# Altium integrated library Linear Technology Power Management System Supervisor, Monitor and Control.IntLib: 1611 symbols (part 80 of 100)
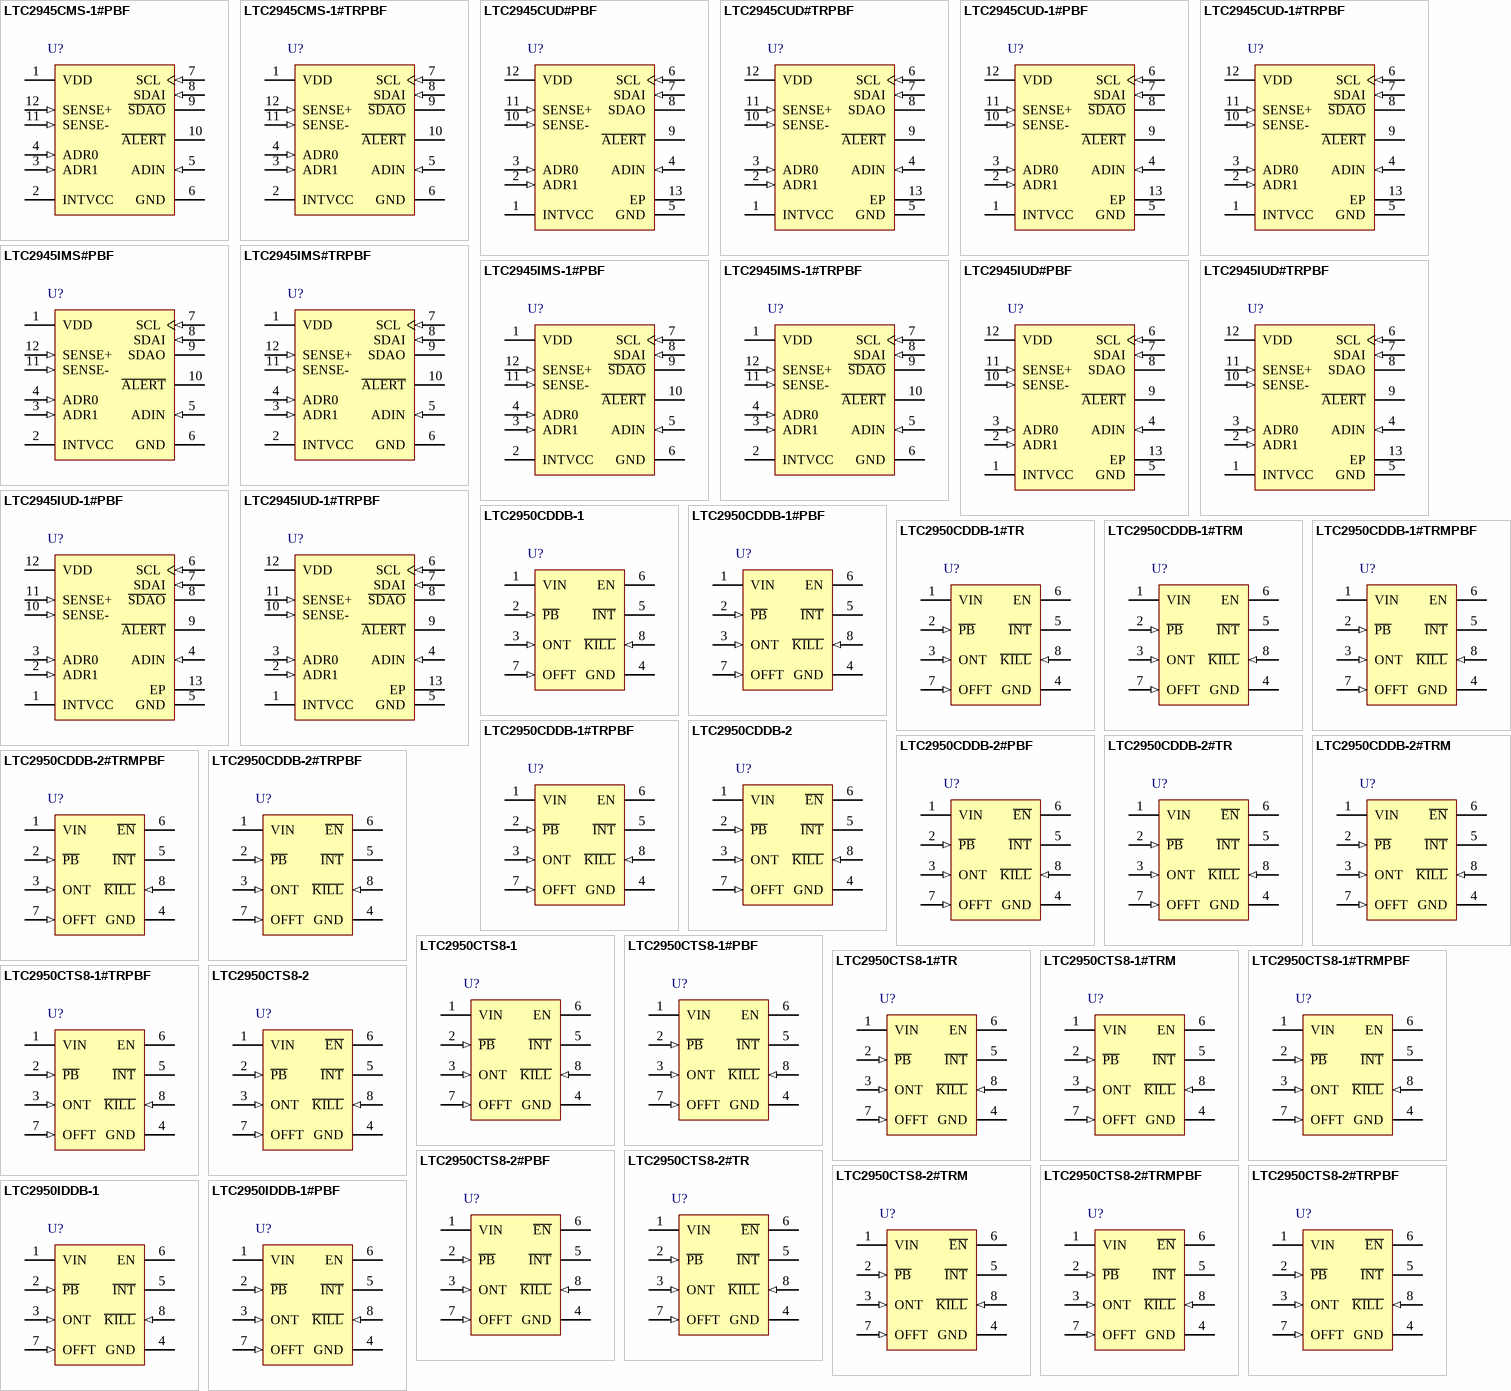
[diagram p124: symbols LTC2945CMS-1#PBF to LTC2950IDDB-1#PBF]

## LTC2945IUD#TRPBF
designator U?
Wide Range I2C Power Monitor, 12-pin QFN (UD-12), -40 to 85 degC, Pb-Free, Tape and Reel; Manufacturer: Linear Technology; PartNumber: LTC2945IUD#TRPBF; Number of Supplies(#): 1; PackageVersion: Rev. Ø, 06/2010; PackageReference: UD-12; PackageDescription: 12-Pin Plastic QFN, Body 3 x 3 mm, Pitch 0.5 mm; Supplier 1: Digi-Key; Supplier Part Number 1: LTC2945IUD#TRPBF-ND; Supplier 2: Newark; Supplier Part Number 2: 48W6396; Packing: Tape and Reel; RoHS: TRUE; Mounting Technology: Surface Mount; Code_JEDEC: MO-220; ComponentLink1Description: Manufacturer URL; ComponentLink1URL: http://www.linear.com/; ComponentLink2Description: Datasheet; ComponentLink2URL: http://cds.linear.com/docs/en/datasheet/2945f.pdf; ComponentLink3Description: Package Specification; ComponentLink3URL: http://cds.linear.com/docs/en/packaging/QFN_12_%2005-08-1855.pdf
footprint LT-UD-12_N (QFN, 12-Leads, Body 3.1x3.1mm, Pitch 0.5mm, Thermal Pad 1.65x1.65mm, IPC Medium Density)
footprint LT-UD-12_L (QFN, 12-Leads, Body 3.1x3.1mm, Pitch 0.5mm, Thermal Pad 1.65x1.65mm, IPC High Density)
footprint LT-UD-12_M (QFN, 12-Leads, Body 3.1x3.1mm, Pitch 0.5mm, Thermal Pad 1.65x1.65mm, IPC Low Density)
pins: 1 INTVCC (power) "Internal Low Voltage Supply Input/Output. This pin is used to power internal circuitry. It can be configured as a direct input for a low voltage supply, as linear regulator from higher voltage supply connected to VDD, or as (See Datasheet)", 2 ADR1 (in) "I2C Device Address Inputs. Connecting these pins to INTVCC, GND or leaving the pins open configures one of nine possible addresses. See Table 1 in Applications Information section for details.", 3 ADR0 (in) "I2C Device Address Inputs. Connecting these pins to INTVCC, GND or leaving the pins open configures one of nine possible addresses. See Table 1 in Applications Information section for details.", 4 ADIN (in) "ADC Input. The onboard ADC measures voltages between 0V and 2.048V. Tie to ground if unused.", 5 GND (power) "Device Ground.", 6 SCL (in) "I2C Bus Clock Input. Data at the SDAI pin is shifted in or out on rising edges of SCL. This pin is driven by an open-collector output from a master controller. An external pull-up resistor or current source is required and (See Datasheet)", 7 SDAI (in) "I2C Bus Data Input. Used for shifting in address, command or data bits. This pin is driven by an opencollector output from a master controller. An external pull-up resistor or current source is required and can be placed (See Datasheet)", 8 SDAO (oc) "I2C Bus Data Output. Open-drain output used for sending data back to the master controller or acknowledging a write operation. An external pull-up resistor or current source is required.", 9 ~{ALERT} (oc) "Fault Alert Output. Open drain logic output that is pulled to ground after an ADC conversion resulted in a fault to alert the host controller. A fault alert is enabled by setting the corresponding bit in the ALERT register (See Datasheet)", 10 SENSE- (in) "Current Sense Input. Connect an external sense resistor between SENSE+ and SENSE-. The differential voltage between SENSE+ and SENSE- is monitored by the onboard ADC with a full-scale sense voltage of 102.4mV.", 11 SENSE+ (in) "Supply Voltage and Current Sense Input. Used as a supply and current sense input for the internal current sense amplifier. The voltage at this pin is monitored by the onboard ADC with a full-scale input range of 102.4V. See (See Datasheet)", 12 VDD (power) "High Voltage Supply Input. This pin powers an internal series regulator with input voltages ranging from 4V to 80V and produces 5V at INTVCC when the input voltage is above 7V. Connect a bypass capacitor between 0.1uF and (See Datasheet)", 13 EP (power) "Exposed pad may be left open or connected to device ground. For best thermal performance, connect to a large PCB area."

## LTC2945IUD-1#PBF
designator U?
Wide Range I2C Power Monitor, 12-pin QFN (UD-12), -40 to 85 degC, Pb-Free; Manufacturer: Linear Technology; PartNumber: LTC2945IUD-1#PBF; Number of Supplies(#): 1; PackageVersion: Rev. Ø, 06/2010; PackageReference: UD-12; PackageDescription: 12-Pin Plastic QFN, Body 3 x 3 mm, Pitch 0.5 mm; Supplier 1: Digi-Key; Supplier Part Number 1: LTC2945IUD-1#PBF-ND; Supplier 2: Newark; Supplier Part Number 2: 48W6393; RoHS: TRUE; Mounting Technology: Surface Mount; Code_JEDEC: MO-220; ComponentLink1Description: Manufacturer URL; ComponentLink1URL: http://www.linear.com/; ComponentLink2Description: Datasheet; ComponentLink2URL: http://cds.linear.com/docs/en/datasheet/2945f.pdf; ComponentLink3Description: Package Specification; ComponentLink3URL: http://cds.linear.com/docs/en/packaging/QFN_12_%2005-08-1855.pdf
footprint LT-UD-12_N (QFN, 12-Leads, Body 3.1x3.1mm, Pitch 0.5mm, Thermal Pad 1.65x1.65mm, IPC Medium Density)
footprint LT-UD-12_L (QFN, 12-Leads, Body 3.1x3.1mm, Pitch 0.5mm, Thermal Pad 1.65x1.65mm, IPC High Density)
footprint LT-UD-12_M (QFN, 12-Leads, Body 3.1x3.1mm, Pitch 0.5mm, Thermal Pad 1.65x1.65mm, IPC Low Density)
pins: 1 INTVCC (power) "Internal Low Voltage Supply Input/Output. This pin is used to power internal circuitry. It can be configured as a direct input for a low voltage supply, as linear regulator from higher voltage supply connected to VDD, or as (See Datasheet)", 2 ADR1 (in) "I2C Device Address Inputs. Connecting these pins to INTVCC, GND or leaving the pins open configures one of nine possible addresses. See Table 1 in Applications Information section for details.", 3 ADR0 (in) "I2C Device Address Inputs. Connecting these pins to INTVCC, GND or leaving the pins open configures one of nine possible addresses. See Table 1 in Applications Information section for details.", 4 ADIN (in) "ADC Input. The onboard ADC measures voltages between 0V and 2.048V. Tie to ground if unused.", 5 GND (power) "Device Ground.", 6 SCL (in) "I2C Bus Clock Input. Data at the SDAI pin is shifted in or out on rising edges of SCL. This pin is driven by an open-collector output from a master controller. An external pull-up resistor or current source is required and (See Datasheet)", 7 SDAI (in) "I2C Bus Data Input. Used for shifting in address, command or data bits. This pin is driven by an opencollector output from a master controller. An external pull-up resistor or current source is required and can be placed (See Datasheet)", 8 ~{SDAO} (oc) "Inverted I2C Bus Data Output. Open-drain output used for sending data back to the master controller or acknowledging a write operation. Data is inverted for convenience of opto-isolation. An external pull-up resistor or (See Datasheet)", 9 ~{ALERT} (oc) "Fault Alert Output. Open drain logic output that is pulled to ground after an ADC conversion resulted in a fault to alert the host controller. A fault alert is enabled by setting the corresponding bit in the ALERT register (See Datasheet)", 10 SENSE- (in) "Current Sense Input. Connect an external sense resistor between SENSE+ and SENSE-. The differential voltage between SENSE+ and SENSE- is monitored by the onboard ADC with a full-scale sense voltage of 102.4mV.", 11 SENSE+ (in) "Supply Voltage and Current Sense Input. Used as a supply and current sense input for the internal current sense amplifier. The voltage at this pin is monitored by the onboard ADC with a full-scale input range of 102.4V. See (See Datasheet)", 12 VDD (power) "High Voltage Supply Input. This pin powers an internal series regulator with input voltages ranging from 4V to 80V and produces 5V at INTVCC when the input voltage is above 7V. Connect a bypass capacitor between 0.1uF and (See Datasheet)", 13 EP (power) "Exposed pad may be left open or connected to device ground. For best thermal performance, connect to a large PCB area."

## LTC2945IUD-1#TRPBF
designator U?
Wide Range I2C Power Monitor, 12-pin QFN (UD-12), -40 to 85 degC, Pb-Free, Tape and Reel; Manufacturer: Linear Technology; PartNumber: LTC2945IUD-1#TRPBF; Number of Supplies(#): 1; PackageVersion: Rev. Ø, 06/2010; PackageReference: UD-12; PackageDescription: 12-Pin Plastic QFN, Body 3 x 3 mm, Pitch 0.5 mm; Supplier 1: Digi-Key; Supplier Part Number 1: LTC2945IUD-1#TRPBF-ND; Supplier 2: Newark; Supplier Part Number 2: 48W6394; Packing: Tape and Reel; RoHS: TRUE; Mounting Technology: Surface Mount; Code_JEDEC: MO-220; ComponentLink1Description: Manufacturer URL; ComponentLink1URL: http://www.linear.com/; ComponentLink2Description: Datasheet; ComponentLink2URL: http://cds.linear.com/docs/en/datasheet/2945f.pdf; ComponentLink3Description: Package Specification; ComponentLink3URL: http://cds.linear.com/docs/en/packaging/QFN_12_%2005-08-1855.pdf
footprint LT-UD-12_N (QFN, 12-Leads, Body 3.1x3.1mm, Pitch 0.5mm, Thermal Pad 1.65x1.65mm, IPC Medium Density)
footprint LT-UD-12_L (QFN, 12-Leads, Body 3.1x3.1mm, Pitch 0.5mm, Thermal Pad 1.65x1.65mm, IPC High Density)
footprint LT-UD-12_M (QFN, 12-Leads, Body 3.1x3.1mm, Pitch 0.5mm, Thermal Pad 1.65x1.65mm, IPC Low Density)
pins: 1 INTVCC (power) "Internal Low Voltage Supply Input/Output. This pin is used to power internal circuitry. It can be configured as a direct input for a low voltage supply, as linear regulator from higher voltage supply connected to VDD, or as (See Datasheet)", 2 ADR1 (in) "I2C Device Address Inputs. Connecting these pins to INTVCC, GND or leaving the pins open configures one of nine possible addresses. See Table 1 in Applications Information section for details.", 3 ADR0 (in) "I2C Device Address Inputs. Connecting these pins to INTVCC, GND or leaving the pins open configures one of nine possible addresses. See Table 1 in Applications Information section for details.", 4 ADIN (in) "ADC Input. The onboard ADC measures voltages between 0V and 2.048V. Tie to ground if unused.", 5 GND (power) "Device Ground.", 6 SCL (in) "I2C Bus Clock Input. Data at the SDAI pin is shifted in or out on rising edges of SCL. This pin is driven by an open-collector output from a master controller. An external pull-up resistor or current source is required and (See Datasheet)", 7 SDAI (in) "I2C Bus Data Input. Used for shifting in address, command or data bits. This pin is driven by an opencollector output from a master controller. An external pull-up resistor or current source is required and can be placed (See Datasheet)", 8 ~{SDAO} (oc) "Inverted I2C Bus Data Output. Open-drain output used for sending data back to the master controller or acknowledging a write operation. Data is inverted for convenience of opto-isolation. An external pull-up resistor or (See Datasheet)", 9 ~{ALERT} (oc) "Fault Alert Output. Open drain logic output that is pulled to ground after an ADC conversion resulted in a fault to alert the host controller. A fault alert is enabled by setting the corresponding bit in the ALERT register (See Datasheet)", 10 SENSE- (in) "Current Sense Input. Connect an external sense resistor between SENSE+ and SENSE-. The differential voltage between SENSE+ and SENSE- is monitored by the onboard ADC with a full-scale sense voltage of 102.4mV.", 11 SENSE+ (in) "Supply Voltage and Current Sense Input. Used as a supply and current sense input for the internal current sense amplifier. The voltage at this pin is monitored by the onboard ADC with a full-scale input range of 102.4V. See (See Datasheet)", 12 VDD (power) "High Voltage Supply Input. This pin powers an internal series regulator with input voltages ranging from 4V to 80V and produces 5V at INTVCC when the input voltage is above 7V. Connect a bypass capacitor between 0.1uF and (See Datasheet)", 13 EP (power) "Exposed pad may be left open or connected to device ground. For best thermal performance, connect to a large PCB area."

## LTC2950CDDB-1
designator U?
Pushbutton On / Off  Controller, 8-pin SON (DDB-8), 0 to 70 degC; Manufacturer: Linear Technology; PartNumber: LTC2950CDDB-1; Number of Supplies(#): 1; DatasheetVersion: Rev. D; PackageVersion: Rev. B, 06/2010; PackageReference: DDB-8; PackageDescription: 8-Pin Plastic DFN, Body 3 x 2 mm, Pitch 0.5 mm; RoHS: FALSE; Mounting Technology: Surface Mount; Code_JEDEC: MO-229; ComponentLink1Description: Manufacturer URL; ComponentLink1URL: http://www.linear.com/; ComponentLink2Description: Datasheet; ComponentLink2URL: http://cds.linear.com/docs/en/datasheet/295012fd.pdf; ComponentLink3Description: Package Specification; ComponentLink3URL: http://cds.linear.com/docs/en/packaging/DFN_8_05-08-1702.pdf
footprint LT-DDB-8_V (SON, 8-Leads, Body 3x2mm, Pitch 0.5mm, Thermal Pad 2.2x0.61mm)
pins: 1 VIN (power) "Power Supply Input: 2.7V to 26.4V.", 2 ~{PB} (in) "Pushbutton Input. Connecting P\B\ to ground through a momentary switch provides on/off control via the EN/E\N\ pin. An internal 100k pull-up resistor connects to an internal 1.9V bias voltage. The rugged P\B\ input can be (See Datasheet)", 3 ONT (in) "Additional Adjustable Turn On Time Input. Placing an external capacitor to ground determines the additional time (beyond the internal default 32ms) the P\B\ pin must be held low before the enable output is asserted. Floating (See Datasheet)", 4 GND (power) "Device Ground.", 5 ~{INT} (oc) "Open Drain Interrupt Output. After a pushbutton turn-off event is detected, the LTC2950 interrupts the system (uP) by bringing the I\N\T\ pin low. Once the system finishes its power down and housekeeping tasks, it sets (See Datasheet)", 6 EN (oc) "Open Drain Enable Output. This pin is intended to enable system power. E\N\ is asserted low after a valid P\B\ turn-on event. E\N\ releases high if: a) K\I\L\L\ is not driven high (by uP) within 512ms of the initial valid (See Datasheet)", 7 OFFT (in) "Additional Adjustable Turn Off Time Input. A capacitor to ground determines the additional time (beyond the internal default 32ms) that the P\B\ pin must be held low before initiating a power down sequence (I\N\T\ falling). (See Datasheet)", 8 ~{KILL} (in) "K\I\L\L\ Input. Forcing K\I\L\L\ low releases the enable output. During system turn on, this pin is blanked by a 512ms internal timer to allow the system to pull K\I\L\L\ high. This pin has an accurate 0.6V threshold and can (See Datasheet)"

## LTC2950CDDB-1#PBF
designator U?
Pushbutton On / Off  Controller, 8-pin SON (DDB-8), 0 to 70 degC, Pb-Free; Manufacturer: Linear Technology; PartNumber: LTC2950CDDB-1#PBF; Number of Supplies(#): 1; DatasheetVersion: Rev. D; PackageVersion: Rev. B, 06/2010; PackageReference: DDB-8; PackageDescription: 8-Pin Plastic DFN, Body 3 x 2 mm, Pitch 0.5 mm; Supplier 1: Farnell; Supplier Part Number 1: 2308126; Supplier 2: Newark; Supplier Part Number 2: 78T3105; RoHS: TRUE; Mounting Technology: Surface Mount; Code_JEDEC: MO-229; ComponentLink1Description: Manufacturer URL; ComponentLink1URL: http://www.linear.com/; ComponentLink2Description: Datasheet; ComponentLink2URL: http://cds.linear.com/docs/en/datasheet/295012fd.pdf; ComponentLink3Description: Package Specification; ComponentLink3URL: http://cds.linear.com/docs/en/packaging/DFN_8_05-08-1702.pdf
footprint LT-DDB-8_V (SON, 8-Leads, Body 3x2mm, Pitch 0.5mm, Thermal Pad 2.2x0.61mm)
pins: 1 VIN (power) "Power Supply Input: 2.7V to 26.4V.", 2 ~{PB} (in) "Pushbutton Input. Connecting P\B\ to ground through a momentary switch provides on/off control via the EN/E\N\ pin. An internal 100k pull-up resistor connects to an internal 1.9V bias voltage. The rugged P\B\ input can be (See Datasheet)", 3 ONT (in) "Additional Adjustable Turn On Time Input. Placing an external capacitor to ground determines the additional time (beyond the internal default 32ms) the P\B\ pin must be held low before the enable output is asserted. Floating (See Datasheet)", 4 GND (power) "Device Ground.", 5 ~{INT} (oc) "Open Drain Interrupt Output. After a pushbutton turn-off event is detected, the LTC2950 interrupts the system (uP) by bringing the I\N\T\ pin low. Once the system finishes its power down and housekeeping tasks, it sets (See Datasheet)", 6 EN (oc) "Open Drain Enable Output. This pin is intended to enable system power. E\N\ is asserted low after a valid P\B\ turn-on event. E\N\ releases high if: a) K\I\L\L\ is not driven high (by uP) within 512ms of the initial valid (See Datasheet)", 7 OFFT (in) "Additional Adjustable Turn Off Time Input. A capacitor to ground determines the additional time (beyond the internal default 32ms) that the P\B\ pin must be held low before initiating a power down sequence (I\N\T\ falling). (See Datasheet)", 8 ~{KILL} (in) "K\I\L\L\ Input. Forcing K\I\L\L\ low releases the enable output. During system turn on, this pin is blanked by a 512ms internal timer to allow the system to pull K\I\L\L\ high. This pin has an accurate 0.6V threshold and can (See Datasheet)"

## LTC2950CDDB-1#TR
designator U?
Pushbutton On / Off  Controller, 8-pin SON (DDB-8), 0 to 70 degC, Tape and Reel; Manufacturer: Linear Technology; PartNumber: LTC2950CDDB-1#TR; Number of Supplies(#): 1; DatasheetVersion: Rev. D; PackageVersion: Rev. B, 06/2010; PackageReference: DDB-8; PackageDescription: 8-Pin Plastic DFN, Body 3 x 2 mm, Pitch 0.5 mm; Packing: Tape and Reel; RoHS: FALSE; Mounting Technology: Surface Mount; Code_JEDEC: MO-229; ComponentLink1Description: Manufacturer URL; ComponentLink1URL: http://www.linear.com/; ComponentLink2Description: Datasheet; ComponentLink2URL: http://cds.linear.com/docs/en/datasheet/295012fd.pdf; ComponentLink3Description: Package Specification; ComponentLink3URL: http://cds.linear.com/docs/en/packaging/DFN_8_05-08-1702.pdf
footprint LT-DDB-8_V (SON, 8-Leads, Body 3x2mm, Pitch 0.5mm, Thermal Pad 2.2x0.61mm)
pins: 1 VIN (power) "Power Supply Input: 2.7V to 26.4V.", 2 ~{PB} (in) "Pushbutton Input. Connecting P\B\ to ground through a momentary switch provides on/off control via the EN/E\N\ pin. An internal 100k pull-up resistor connects to an internal 1.9V bias voltage. The rugged P\B\ input can be (See Datasheet)", 3 ONT (in) "Additional Adjustable Turn On Time Input. Placing an external capacitor to ground determines the additional time (beyond the internal default 32ms) the P\B\ pin must be held low before the enable output is asserted. Floating (See Datasheet)", 4 GND (power) "Device Ground.", 5 ~{INT} (oc) "Open Drain Interrupt Output. After a pushbutton turn-off event is detected, the LTC2950 interrupts the system (uP) by bringing the I\N\T\ pin low. Once the system finishes its power down and housekeeping tasks, it sets (See Datasheet)", 6 EN (oc) "Open Drain Enable Output. This pin is intended to enable system power. E\N\ is asserted low after a valid P\B\ turn-on event. E\N\ releases high if: a) K\I\L\L\ is not driven high (by uP) within 512ms of the initial valid (See Datasheet)", 7 OFFT (in) "Additional Adjustable Turn Off Time Input. A capacitor to ground determines the additional time (beyond the internal default 32ms) that the P\B\ pin must be held low before initiating a power down sequence (I\N\T\ falling). (See Datasheet)", 8 ~{KILL} (in) "K\I\L\L\ Input. Forcing K\I\L\L\ low releases the enable output. During system turn on, this pin is blanked by a 512ms internal timer to allow the system to pull K\I\L\L\ high. This pin has an accurate 0.6V threshold and can (See Datasheet)"

## LTC2950CDDB-1#TRM
designator U?
Pushbutton On / Off  Controller, 8-pin SON (DDB-8), 0 to 70 degC, Mini Tape and Reel; Manufacturer: Linear Technology; PartNumber: LTC2950CDDB-1#TRM; Number of Supplies(#): 1; DatasheetVersion: Rev. D; PackageVersion: Rev. B, 06/2010; PackageReference: DDB-8; PackageDescription: 8-Pin Plastic DFN, Body 3 x 2 mm, Pitch 0.5 mm; Packing: Mini Tape and Reel; RoHS: FALSE; Mounting Technology: Surface Mount; Code_JEDEC: MO-229; ComponentLink1Description: Manufacturer URL; ComponentLink1URL: http://www.linear.com/; ComponentLink2Description: Datasheet; ComponentLink2URL: http://cds.linear.com/docs/en/datasheet/295012fd.pdf; ComponentLink3Description: Package Specification; ComponentLink3URL: http://cds.linear.com/docs/en/packaging/DFN_8_05-08-1702.pdf
footprint LT-DDB-8_V (SON, 8-Leads, Body 3x2mm, Pitch 0.5mm, Thermal Pad 2.2x0.61mm)
pins: 1 VIN (power) "Power Supply Input: 2.7V to 26.4V.", 2 ~{PB} (in) "Pushbutton Input. Connecting P\B\ to ground through a momentary switch provides on/off control via the EN/E\N\ pin. An internal 100k pull-up resistor connects to an internal 1.9V bias voltage. The rugged P\B\ input can be (See Datasheet)", 3 ONT (in) "Additional Adjustable Turn On Time Input. Placing an external capacitor to ground determines the additional time (beyond the internal default 32ms) the P\B\ pin must be held low before the enable output is asserted. Floating (See Datasheet)", 4 GND (power) "Device Ground.", 5 ~{INT} (oc) "Open Drain Interrupt Output. After a pushbutton turn-off event is detected, the LTC2950 interrupts the system (uP) by bringing the I\N\T\ pin low. Once the system finishes its power down and housekeeping tasks, it sets (See Datasheet)", 6 EN (oc) "Open Drain Enable Output. This pin is intended to enable system power. E\N\ is asserted low after a valid P\B\ turn-on event. E\N\ releases high if: a) K\I\L\L\ is not driven high (by uP) within 512ms of the initial valid (See Datasheet)", 7 OFFT (in) "Additional Adjustable Turn Off Time Input. A capacitor to ground determines the additional time (beyond the internal default 32ms) that the P\B\ pin must be held low before initiating a power down sequence (I\N\T\ falling). (See Datasheet)", 8 ~{KILL} (in) "K\I\L\L\ Input. Forcing K\I\L\L\ low releases the enable output. During system turn on, this pin is blanked by a 512ms internal timer to allow the system to pull K\I\L\L\ high. This pin has an accurate 0.6V threshold and can (See Datasheet)"

## LTC2950CDDB-1#TRMPBF
designator U?
Pushbutton On / Off  Controller, 8-pin SON (DDB-8), 0 to 70 degC, Pb-Free, Mini Tape and Reel; Manufacturer: Linear Technology; PartNumber: LTC2950CDDB-1#TRMPBF; Number of Supplies(#): 1; DatasheetVersion: Rev. D; PackageVersion: Rev. B, 06/2010; PackageReference: DDB-8; PackageDescription: 8-Pin Plastic DFN, Body 3 x 2 mm, Pitch 0.5 mm; Supplier 1: Digi-Key; Supplier Part Number 1: LTC2950CDDB-1#TRMPBFTR-ND; Supplier 2: Digi-Key; Supplier Part Number 2: LTC2950CDDB-1#TRMPBFCT-ND; Supplier 3: Digi-Key; Supplier Part Number 3: LTC2950CDDB-1#TRMPBFDKR-ND; Supplier 4: Newark; Supplier Part Number 4: 12P6548; Packing: Mini Tape and Reel; RoHS: TRUE; Mounting Technology: Surface Mount; Code_JEDEC: MO-229; ComponentLink1Description: Manufacturer URL; ComponentLink1URL: http://www.linear.com/; ComponentLink2Description: Datasheet; ComponentLink2URL: http://cds.linear.com/docs/en/datasheet/295012fd.pdf; ComponentLink3Description: Package Specification; ComponentLink3URL: http://cds.linear.com/docs/en/packaging/DFN_8_05-08-1702.pdf
footprint LT-DDB-8_V (SON, 8-Leads, Body 3x2mm, Pitch 0.5mm, Thermal Pad 2.2x0.61mm)
pins: 1 VIN (power) "Power Supply Input: 2.7V to 26.4V.", 2 ~{PB} (in) "Pushbutton Input. Connecting P\B\ to ground through a momentary switch provides on/off control via the EN/E\N\ pin. An internal 100k pull-up resistor connects to an internal 1.9V bias voltage. The rugged P\B\ input can be (See Datasheet)", 3 ONT (in) "Additional Adjustable Turn On Time Input. Placing an external capacitor to ground determines the additional time (beyond the internal default 32ms) the P\B\ pin must be held low before the enable output is asserted. Floating (See Datasheet)", 4 GND (power) "Device Ground.", 5 ~{INT} (oc) "Open Drain Interrupt Output. After a pushbutton turn-off event is detected, the LTC2950 interrupts the system (uP) by bringing the I\N\T\ pin low. Once the system finishes its power down and housekeeping tasks, it sets (See Datasheet)", 6 EN (oc) "Open Drain Enable Output. This pin is intended to enable system power. E\N\ is asserted low after a valid P\B\ turn-on event. E\N\ releases high if: a) K\I\L\L\ is not driven high (by uP) within 512ms of the initial valid (See Datasheet)", 7 OFFT (in) "Additional Adjustable Turn Off Time Input. A capacitor to ground determines the additional time (beyond the internal default 32ms) that the P\B\ pin must be held low before initiating a power down sequence (I\N\T\ falling). (See Datasheet)", 8 ~{KILL} (in) "K\I\L\L\ Input. Forcing K\I\L\L\ low releases the enable output. During system turn on, this pin is blanked by a 512ms internal timer to allow the system to pull K\I\L\L\ high. This pin has an accurate 0.6V threshold and can (See Datasheet)"

## LTC2950CDDB-1#TRPBF
designator U?
Pushbutton On / Off  Controller, 8-pin SON (DDB-8), 0 to 70 degC, Pb-Free, Tape and Reel; Manufacturer: Linear Technology; PartNumber: LTC2950CDDB-1#TRPBF; Number of Supplies(#): 1; DatasheetVersion: Rev. D; PackageVersion: Rev. B, 06/2010; PackageReference: DDB-8; PackageDescription: 8-Pin Plastic DFN, Body 3 x 2 mm, Pitch 0.5 mm; Supplier 1: Digi-Key; Supplier Part Number 1: LTC2950CDDB-1#TRPBF-ND; Packing: Tape and Reel; RoHS: TRUE; Mounting Technology: Surface Mount; Code_JEDEC: MO-229; ComponentLink1Description: Manufacturer URL; ComponentLink1URL: http://www.linear.com/; ComponentLink2Description: Datasheet; ComponentLink2URL: http://cds.linear.com/docs/en/datasheet/295012fd.pdf; ComponentLink3Description: Package Specification; ComponentLink3URL: http://cds.linear.com/docs/en/packaging/DFN_8_05-08-1702.pdf
footprint LT-DDB-8_V (SON, 8-Leads, Body 3x2mm, Pitch 0.5mm, Thermal Pad 2.2x0.61mm)
pins: 1 VIN (power) "Power Supply Input: 2.7V to 26.4V.", 2 ~{PB} (in) "Pushbutton Input. Connecting P\B\ to ground through a momentary switch provides on/off control via the EN/E\N\ pin. An internal 100k pull-up resistor connects to an internal 1.9V bias voltage. The rugged P\B\ input can be (See Datasheet)", 3 ONT (in) "Additional Adjustable Turn On Time Input. Placing an external capacitor to ground determines the additional time (beyond the internal default 32ms) the P\B\ pin must be held low before the enable output is asserted. Floating (See Datasheet)", 4 GND (power) "Device Ground.", 5 ~{INT} (oc) "Open Drain Interrupt Output. After a pushbutton turn-off event is detected, the LTC2950 interrupts the system (uP) by bringing the I\N\T\ pin low. Once the system finishes its power down and housekeeping tasks, it sets (See Datasheet)", 6 EN (oc) "Open Drain Enable Output. This pin is intended to enable system power. E\N\ is asserted low after a valid P\B\ turn-on event. E\N\ releases high if: a) K\I\L\L\ is not driven high (by uP) within 512ms of the initial valid (See Datasheet)", 7 OFFT (in) "Additional Adjustable Turn Off Time Input. A capacitor to ground determines the additional time (beyond the internal default 32ms) that the P\B\ pin must be held low before initiating a power down sequence (I\N\T\ falling). (See Datasheet)", 8 ~{KILL} (in) "K\I\L\L\ Input. Forcing K\I\L\L\ low releases the enable output. During system turn on, this pin is blanked by a 512ms internal timer to allow the system to pull K\I\L\L\ high. This pin has an accurate 0.6V threshold and can (See Datasheet)"

## LTC2950CDDB-2
designator U?
Pushbutton On / Off  Controller, 8-pin SON (DDB-8), 0 to 70 degC; Manufacturer: Linear Technology; PartNumber: LTC2950CDDB-2; Number of Supplies(#): 1; DatasheetVersion: Rev. D; PackageVersion: Rev. B, 06/2010; PackageReference: DDB-8; PackageDescription: 8-Pin Plastic DFN, Body 3 x 2 mm, Pitch 0.5 mm; RoHS: FALSE; Mounting Technology: Surface Mount; Code_JEDEC: MO-229; ComponentLink1Description: Manufacturer URL; ComponentLink1URL: http://www.linear.com/; ComponentLink2Description: Datasheet; ComponentLink2URL: http://cds.linear.com/docs/en/datasheet/295012fd.pdf; ComponentLink3Description: Package Specification; ComponentLink3URL: http://cds.linear.com/docs/en/packaging/DFN_8_05-08-1702.pdf
footprint LT-DDB-8_V (SON, 8-Leads, Body 3x2mm, Pitch 0.5mm, Thermal Pad 2.2x0.61mm)
pins: 1 VIN (power) "Power Supply Input: 2.7V to 26.4V.", 2 ~{PB} (in) "Pushbutton Input. Connecting P\B\ to ground through a momentary switch provides on/off control via the EN/E\N\ pin. An internal 100k pull-up resistor connects to an internal 1.9V bias voltage. The rugged P\B\ input can be (See Datasheet)", 3 ONT (in) "Additional Adjustable Turn On Time Input. Placing an external capacitor to ground determines the additional time (beyond the internal default 32ms) the P\B\ pin must be held low before the enable output is asserted. Floating (See Datasheet)", 4 GND (power) "Device Ground.", 5 ~{INT} (oc) "Open Drain Interrupt Output. After a pushbutton turn-off event is detected, the LTC2950 interrupts the system (uP) by bringing the I\N\T\ pin low. Once the system finishes its power down and housekeeping tasks, it sets (See Datasheet)", 6 ~{EN} (oc) "Open Drain Enable Output. This pin is intended to enable system power. E\N\ is asserted low after a valid P\B\ turn-on event. E\N\ releases high if: a) K\I\L\L\ is not driven high (by uP) within 512ms of the initial valid (See Datasheet)", 7 OFFT (in) "Additional Adjustable Turn Off Time Input. A capacitor to ground determines the additional time (beyond the internal default 32ms) that the P\B\ pin must be held low before initiating a power down sequence (I\N\T\ falling). (See Datasheet)", 8 ~{KILL} (in) "K\I\L\L\ Input. Forcing K\I\L\L\ low releases the enable output. During system turn on, this pin is blanked by a 512ms internal timer to allow the system to pull K\I\L\L\ high. This pin has an accurate 0.6V threshold and can (See Datasheet)"

## LTC2950CDDB-2#PBF
designator U?
Pushbutton On / Off  Controller, 8-pin SON (DDB-8), 0 to 70 degC, Pb-Free; Manufacturer: Linear Technology; PartNumber: LTC2950CDDB-2#PBF; Number of Supplies(#): 1; DatasheetVersion: Rev. D; PackageVersion: Rev. B, 06/2010; PackageReference: DDB-8; PackageDescription: 8-Pin Plastic DFN, Body 3 x 2 mm, Pitch 0.5 mm; RoHS: TRUE; Mounting Technology: Surface Mount; Code_JEDEC: MO-229; ComponentLink1Description: Manufacturer URL; ComponentLink1URL: http://www.linear.com/; ComponentLink2Description: Datasheet; ComponentLink2URL: http://cds.linear.com/docs/en/datasheet/295012fd.pdf; ComponentLink3Description: Package Specification; ComponentLink3URL: http://cds.linear.com/docs/en/packaging/DFN_8_05-08-1702.pdf
footprint LT-DDB-8_V (SON, 8-Leads, Body 3x2mm, Pitch 0.5mm, Thermal Pad 2.2x0.61mm)
pins: 1 VIN (power) "Power Supply Input: 2.7V to 26.4V.", 2 ~{PB} (in) "Pushbutton Input. Connecting P\B\ to ground through a momentary switch provides on/off control via the EN/E\N\ pin. An internal 100k pull-up resistor connects to an internal 1.9V bias voltage. The rugged P\B\ input can be (See Datasheet)", 3 ONT (in) "Additional Adjustable Turn On Time Input. Placing an external capacitor to ground determines the additional time (beyond the internal default 32ms) the P\B\ pin must be held low before the enable output is asserted. Floating (See Datasheet)", 4 GND (power) "Device Ground.", 5 ~{INT} (oc) "Open Drain Interrupt Output. After a pushbutton turn-off event is detected, the LTC2950 interrupts the system (uP) by bringing the I\N\T\ pin low. Once the system finishes its power down and housekeeping tasks, it sets (See Datasheet)", 6 ~{EN} (oc) "Open Drain Enable Output. This pin is intended to enable system power. E\N\ is asserted low after a valid P\B\ turn-on event. E\N\ releases high if: a) K\I\L\L\ is not driven high (by uP) within 512ms of the initial valid (See Datasheet)", 7 OFFT (in) "Additional Adjustable Turn Off Time Input. A capacitor to ground determines the additional time (beyond the internal default 32ms) that the P\B\ pin must be held low before initiating a power down sequence (I\N\T\ falling). (See Datasheet)", 8 ~{KILL} (in) "K\I\L\L\ Input. Forcing K\I\L\L\ low releases the enable output. During system turn on, this pin is blanked by a 512ms internal timer to allow the system to pull K\I\L\L\ high. This pin has an accurate 0.6V threshold and can (See Datasheet)"

## LTC2950CDDB-2#TR
designator U?
Pushbutton On / Off  Controller, 8-pin SON (DDB-8), 0 to 70 degC, Tape and Reel; Manufacturer: Linear Technology; PartNumber: LTC2950CDDB-2#TR; Number of Supplies(#): 1; DatasheetVersion: Rev. D; PackageVersion: Rev. B, 06/2010; PackageReference: DDB-8; PackageDescription: 8-Pin Plastic DFN, Body 3 x 2 mm, Pitch 0.5 mm; Packing: Tape and Reel; RoHS: FALSE; Mounting Technology: Surface Mount; Code_JEDEC: MO-229; ComponentLink1Description: Manufacturer URL; ComponentLink1URL: http://www.linear.com/; ComponentLink2Description: Datasheet; ComponentLink2URL: http://cds.linear.com/docs/en/datasheet/295012fd.pdf; ComponentLink3Description: Package Specification; ComponentLink3URL: http://cds.linear.com/docs/en/packaging/DFN_8_05-08-1702.pdf
footprint LT-DDB-8_V (SON, 8-Leads, Body 3x2mm, Pitch 0.5mm, Thermal Pad 2.2x0.61mm)
pins: 1 VIN (power) "Power Supply Input: 2.7V to 26.4V.", 2 ~{PB} (in) "Pushbutton Input. Connecting P\B\ to ground through a momentary switch provides on/off control via the EN/E\N\ pin. An internal 100k pull-up resistor connects to an internal 1.9V bias voltage. The rugged P\B\ input can be (See Datasheet)", 3 ONT (in) "Additional Adjustable Turn On Time Input. Placing an external capacitor to ground determines the additional time (beyond the internal default 32ms) the P\B\ pin must be held low before the enable output is asserted. Floating (See Datasheet)", 4 GND (power) "Device Ground.", 5 ~{INT} (oc) "Open Drain Interrupt Output. After a pushbutton turn-off event is detected, the LTC2950 interrupts the system (uP) by bringing the I\N\T\ pin low. Once the system finishes its power down and housekeeping tasks, it sets (See Datasheet)", 6 ~{EN} (oc) "Open Drain Enable Output. This pin is intended to enable system power. E\N\ is asserted low after a valid P\B\ turn-on event. E\N\ releases high if: a) K\I\L\L\ is not driven high (by uP) within 512ms of the initial valid (See Datasheet)", 7 OFFT (in) "Additional Adjustable Turn Off Time Input. A capacitor to ground determines the additional time (beyond the internal default 32ms) that the P\B\ pin must be held low before initiating a power down sequence (I\N\T\ falling). (See Datasheet)", 8 ~{KILL} (in) "K\I\L\L\ Input. Forcing K\I\L\L\ low releases the enable output. During system turn on, this pin is blanked by a 512ms internal timer to allow the system to pull K\I\L\L\ high. This pin has an accurate 0.6V threshold and can (See Datasheet)"

## LTC2950CDDB-2#TRM
designator U?
Pushbutton On / Off  Controller, 8-pin SON (DDB-8), 0 to 70 degC, Mini Tape and Reel; Manufacturer: Linear Technology; PartNumber: LTC2950CDDB-2#TRM; Number of Supplies(#): 1; DatasheetVersion: Rev. D; PackageVersion: Rev. B, 06/2010; PackageReference: DDB-8; PackageDescription: 8-Pin Plastic DFN, Body 3 x 2 mm, Pitch 0.5 mm; Packing: Mini Tape and Reel; RoHS: FALSE; Mounting Technology: Surface Mount; Code_JEDEC: MO-229; ComponentLink1Description: Manufacturer URL; ComponentLink1URL: http://www.linear.com/; ComponentLink2Description: Datasheet; ComponentLink2URL: http://cds.linear.com/docs/en/datasheet/295012fd.pdf; ComponentLink3Description: Package Specification; ComponentLink3URL: http://cds.linear.com/docs/en/packaging/DFN_8_05-08-1702.pdf
footprint LT-DDB-8_V (SON, 8-Leads, Body 3x2mm, Pitch 0.5mm, Thermal Pad 2.2x0.61mm)
pins: 1 VIN (power) "Power Supply Input: 2.7V to 26.4V.", 2 ~{PB} (in) "Pushbutton Input. Connecting P\B\ to ground through a momentary switch provides on/off control via the EN/E\N\ pin. An internal 100k pull-up resistor connects to an internal 1.9V bias voltage. The rugged P\B\ input can be (See Datasheet)", 3 ONT (in) "Additional Adjustable Turn On Time Input. Placing an external capacitor to ground determines the additional time (beyond the internal default 32ms) the P\B\ pin must be held low before the enable output is asserted. Floating (See Datasheet)", 4 GND (power) "Device Ground.", 5 ~{INT} (oc) "Open Drain Interrupt Output. After a pushbutton turn-off event is detected, the LTC2950 interrupts the system (uP) by bringing the I\N\T\ pin low. Once the system finishes its power down and housekeeping tasks, it sets (See Datasheet)", 6 ~{EN} (oc) "Open Drain Enable Output. This pin is intended to enable system power. E\N\ is asserted low after a valid P\B\ turn-on event. E\N\ releases high if: a) K\I\L\L\ is not driven high (by uP) within 512ms of the initial valid (See Datasheet)", 7 OFFT (in) "Additional Adjustable Turn Off Time Input. A capacitor to ground determines the additional time (beyond the internal default 32ms) that the P\B\ pin must be held low before initiating a power down sequence (I\N\T\ falling). (See Datasheet)", 8 ~{KILL} (in) "K\I\L\L\ Input. Forcing K\I\L\L\ low releases the enable output. During system turn on, this pin is blanked by a 512ms internal timer to allow the system to pull K\I\L\L\ high. This pin has an accurate 0.6V threshold and can (See Datasheet)"

## LTC2950CDDB-2#TRMPBF
designator U?
Pushbutton On / Off  Controller, 8-pin SON (DDB-8), 0 to 70 degC, Pb-Free, Mini Tape and Reel; Manufacturer: Linear Technology; PartNumber: LTC2950CDDB-2#TRMPBF; Number of Supplies(#): 1; DatasheetVersion: Rev. D; PackageVersion: Rev. B, 06/2010; PackageReference: DDB-8; PackageDescription: 8-Pin Plastic DFN, Body 3 x 2 mm, Pitch 0.5 mm; Supplier 1: Digi-Key; Supplier Part Number 1: LTC2950CDDB-2#TRMPBFTR-ND; Supplier 2: Digi-Key; Supplier Part Number 2: LTC2950CDDB-2#TRMPBFCT-ND; Supplier 3: Digi-Key; Supplier Part Number 3: LTC2950CDDB-2#TRMPBFDKR-ND; Supplier 4: Farnell; Supplier Part Number 4: 1673534; Supplier 5: Newark; Supplier Part Number 5: 12P6550; Packing: Mini Tape and Reel; RoHS: TRUE; Mounting Technology: Surface Mount; Code_JEDEC: MO-229; ComponentLink1Description: Manufacturer URL; ComponentLink1URL: http://www.linear.com/; ComponentLink2Description: Datasheet; ComponentLink2URL: http://cds.linear.com/docs/en/datasheet/295012fd.pdf; ComponentLink3Description: Package Specification; ComponentLink3URL: http://cds.linear.com/docs/en/packaging/DFN_8_05-08-1702.pdf
footprint LT-DDB-8_V (SON, 8-Leads, Body 3x2mm, Pitch 0.5mm, Thermal Pad 2.2x0.61mm)
pins: 1 VIN (power) "Power Supply Input: 2.7V to 26.4V.", 2 ~{PB} (in) "Pushbutton Input. Connecting P\B\ to ground through a momentary switch provides on/off control via the EN/E\N\ pin. An internal 100k pull-up resistor connects to an internal 1.9V bias voltage. The rugged P\B\ input can be (See Datasheet)", 3 ONT (in) "Additional Adjustable Turn On Time Input. Placing an external capacitor to ground determines the additional time (beyond the internal default 32ms) the P\B\ pin must be held low before the enable output is asserted. Floating (See Datasheet)", 4 GND (power) "Device Ground.", 5 ~{INT} (oc) "Open Drain Interrupt Output. After a pushbutton turn-off event is detected, the LTC2950 interrupts the system (uP) by bringing the I\N\T\ pin low. Once the system finishes its power down and housekeeping tasks, it sets (See Datasheet)", 6 ~{EN} (oc) "Open Drain Enable Output. This pin is intended to enable system power. E\N\ is asserted low after a valid P\B\ turn-on event. E\N\ releases high if: a) K\I\L\L\ is not driven high (by uP) within 512ms of the initial valid (See Datasheet)", 7 OFFT (in) "Additional Adjustable Turn Off Time Input. A capacitor to ground determines the additional time (beyond the internal default 32ms) that the P\B\ pin must be held low before initiating a power down sequence (I\N\T\ falling). (See Datasheet)", 8 ~{KILL} (in) "K\I\L\L\ Input. Forcing K\I\L\L\ low releases the enable output. During system turn on, this pin is blanked by a 512ms internal timer to allow the system to pull K\I\L\L\ high. This pin has an accurate 0.6V threshold and can (See Datasheet)"

## LTC2950CDDB-2#TRPBF
designator U?
Pushbutton On / Off  Controller, 8-pin SON (DDB-8), 0 to 70 degC, Pb-Free, Tape and Reel; Manufacturer: Linear Technology; PartNumber: LTC2950CDDB-2#TRPBF; Number of Supplies(#): 1; DatasheetVersion: Rev. D; PackageVersion: Rev. B, 06/2010; PackageReference: DDB-8; PackageDescription: 8-Pin Plastic DFN, Body 3 x 2 mm, Pitch 0.5 mm; Supplier 1: Digi-Key; Supplier Part Number 1: LTC2950CDDB-2#TRPBF-ND; Packing: Tape and Reel; RoHS: TRUE; Mounting Technology: Surface Mount; Code_JEDEC: MO-229; ComponentLink1Description: Manufacturer URL; ComponentLink1URL: http://www.linear.com/; ComponentLink2Description: Datasheet; ComponentLink2URL: http://cds.linear.com/docs/en/datasheet/295012fd.pdf; ComponentLink3Description: Package Specification; ComponentLink3URL: http://cds.linear.com/docs/en/packaging/DFN_8_05-08-1702.pdf
footprint LT-DDB-8_V (SON, 8-Leads, Body 3x2mm, Pitch 0.5mm, Thermal Pad 2.2x0.61mm)
pins: 1 VIN (power) "Power Supply Input: 2.7V to 26.4V.", 2 ~{PB} (in) "Pushbutton Input. Connecting P\B\ to ground through a momentary switch provides on/off control via the EN/E\N\ pin. An internal 100k pull-up resistor connects to an internal 1.9V bias voltage. The rugged P\B\ input can be (See Datasheet)", 3 ONT (in) "Additional Adjustable Turn On Time Input. Placing an external capacitor to ground determines the additional time (beyond the internal default 32ms) the P\B\ pin must be held low before the enable output is asserted. Floating (See Datasheet)", 4 GND (power) "Device Ground.", 5 ~{INT} (oc) "Open Drain Interrupt Output. After a pushbutton turn-off event is detected, the LTC2950 interrupts the system (uP) by bringing the I\N\T\ pin low. Once the system finishes its power down and housekeeping tasks, it sets (See Datasheet)", 6 ~{EN} (oc) "Open Drain Enable Output. This pin is intended to enable system power. E\N\ is asserted low after a valid P\B\ turn-on event. E\N\ releases high if: a) K\I\L\L\ is not driven high (by uP) within 512ms of the initial valid (See Datasheet)", 7 OFFT (in) "Additional Adjustable Turn Off Time Input. A capacitor to ground determines the additional time (beyond the internal default 32ms) that the P\B\ pin must be held low before initiating a power down sequence (I\N\T\ falling). (See Datasheet)", 8 ~{KILL} (in) "K\I\L\L\ Input. Forcing K\I\L\L\ low releases the enable output. During system turn on, this pin is blanked by a 512ms internal timer to allow the system to pull K\I\L\L\ high. This pin has an accurate 0.6V threshold and can (See Datasheet)"

## LTC2950CTS8-1
designator U?
Pushbutton On / Off  Controller, 8-pin SOT23 (TS8-8), 0 to 70 degC; Manufacturer: Linear Technology; PartNumber: LTC2950CTS8-1; Number of Supplies(#): 1; DatasheetVersion: Rev. D; PackageVersion: Rev. A, 08/2010; PackageReference: TS8-8; PackageDescription: 8-Pin Plastic TSOT-23, Body 2.9 x 1.63 mm, Pitch 0.65 mm; RoHS: FALSE; Mounting Technology: Surface Mount; Code_JEDEC: MO-193; ComponentLink1Description: Manufacturer URL; ComponentLink1URL: http://www.linear.com/; ComponentLink2Description: Datasheet; ComponentLink2URL: http://cds.linear.com/docs/en/datasheet/295012fd.pdf; ComponentLink3Description: Package Specification; ComponentLink3URL: http://cds.linear.com/docs/en/packaging/SOT_8_05-08-1637.pdf
footprint LT-TS8-8-TSOT-23_V (SOT23, 8-Leads, Body 2.9x1.75mm, Pitch 0.65mm)
pins: 1 VIN (power) "Power Supply Input: 2.7V to 26.4V.", 2 ~{PB} (in) "Pushbutton Input. Connecting P\B\ to ground through a momentary switch provides on/off control via the EN/E\N\ pin. An internal 100k pull-up resistor connects to an internal 1.9V bias voltage. The rugged P\B\ input can be (See Datasheet)", 3 ONT (in) "Additional Adjustable Turn On Time Input. Placing an external capacitor to ground determines the additional time (beyond the internal default 32ms) the P\B\ pin must be held low before the enable output is asserted. Floating (See Datasheet)", 4 GND (power) "Device Ground.", 5 ~{INT} (oc) "Open Drain Interrupt Output. After a pushbutton turn-off event is detected, the LTC2950 interrupts the system (uP) by bringing the I\N\T\ pin low. Once the system finishes its power down and housekeeping tasks, it sets (See Datasheet)", 6 EN (oc) "Open Drain Enable Output. This pin is intended to enable system power. E\N\ is asserted low after a valid P\B\ turn-on event. E\N\ releases high if: a) K\I\L\L\ is not driven high (by uP) within 512ms of the initial valid (See Datasheet)", 7 OFFT (in) "Additional Adjustable Turn Off Time Input. A capacitor to ground determines the additional time (beyond the internal default 32ms) that the P\B\ pin must be held low before initiating a power down sequence (I\N\T\ falling). (See Datasheet)", 8 ~{KILL} (in) "K\I\L\L\ Input. Forcing K\I\L\L\ low releases the enable output. During system turn on, this pin is blanked by a 512ms internal timer to allow the system to pull K\I\L\L\ high. This pin has an accurate 0.6V threshold and can (See Datasheet)"

## LTC2950CTS8-1#PBF
designator U?
Pushbutton On / Off  Controller, 8-pin SOT23 (TS8-8), 0 to 70 degC, Pb-Free; Manufacturer: Linear Technology; PartNumber: LTC2950CTS8-1#PBF; Number of Supplies(#): 1; DatasheetVersion: Rev. D; PackageVersion: Rev. A, 08/2010; PackageReference: TS8-8; PackageDescription: 8-Pin Plastic TSOT-23, Body 2.9 x 1.63 mm, Pitch 0.65 mm; Supplier 1: Farnell; Supplier Part Number 1: 2308127; Supplier 2: Newark; Supplier Part Number 2: 78T3107; RoHS: TRUE; Mounting Technology: Surface Mount; Code_JEDEC: MO-193; ComponentLink1Description: Manufacturer URL; ComponentLink1URL: http://www.linear.com/; ComponentLink2Description: Datasheet; ComponentLink2URL: http://cds.linear.com/docs/en/datasheet/295012fd.pdf; ComponentLink3Description: Package Specification; ComponentLink3URL: http://cds.linear.com/docs/en/packaging/SOT_8_05-08-1637.pdf
footprint LT-TS8-8-TSOT-23_V (SOT23, 8-Leads, Body 2.9x1.75mm, Pitch 0.65mm)
pins: 1 VIN (power) "Power Supply Input: 2.7V to 26.4V.", 2 ~{PB} (in) "Pushbutton Input. Connecting P\B\ to ground through a momentary switch provides on/off control via the EN/E\N\ pin. An internal 100k pull-up resistor connects to an internal 1.9V bias voltage. The rugged P\B\ input can be (See Datasheet)", 3 ONT (in) "Additional Adjustable Turn On Time Input. Placing an external capacitor to ground determines the additional time (beyond the internal default 32ms) the P\B\ pin must be held low before the enable output is asserted. Floating (See Datasheet)", 4 GND (power) "Device Ground.", 5 ~{INT} (oc) "Open Drain Interrupt Output. After a pushbutton turn-off event is detected, the LTC2950 interrupts the system (uP) by bringing the I\N\T\ pin low. Once the system finishes its power down and housekeeping tasks, it sets (See Datasheet)", 6 EN (oc) "Open Drain Enable Output. This pin is intended to enable system power. E\N\ is asserted low after a valid P\B\ turn-on event. E\N\ releases high if: a) K\I\L\L\ is not driven high (by uP) within 512ms of the initial valid (See Datasheet)", 7 OFFT (in) "Additional Adjustable Turn Off Time Input. A capacitor to ground determines the additional time (beyond the internal default 32ms) that the P\B\ pin must be held low before initiating a power down sequence (I\N\T\ falling). (See Datasheet)", 8 ~{KILL} (in) "K\I\L\L\ Input. Forcing K\I\L\L\ low releases the enable output. During system turn on, this pin is blanked by a 512ms internal timer to allow the system to pull K\I\L\L\ high. This pin has an accurate 0.6V threshold and can (See Datasheet)"

## LTC2950CTS8-1#TR
designator U?
Pushbutton On / Off  Controller, 8-pin SOT23 (TS8-8), 0 to 70 degC, Tape and Reel; Manufacturer: Linear Technology; PartNumber: LTC2950CTS8-1#TR; Number of Supplies(#): 1; DatasheetVersion: Rev. D; PackageVersion: Rev. A, 08/2010; PackageReference: TS8-8; PackageDescription: 8-Pin Plastic TSOT-23, Body 2.9 x 1.63 mm, Pitch 0.65 mm; Packing: Tape and Reel; RoHS: FALSE; Mounting Technology: Surface Mount; Code_JEDEC: MO-193; ComponentLink1Description: Manufacturer URL; ComponentLink1URL: http://www.linear.com/; ComponentLink2Description: Datasheet; ComponentLink2URL: http://cds.linear.com/docs/en/datasheet/295012fd.pdf; ComponentLink3Description: Package Specification; ComponentLink3URL: http://cds.linear.com/docs/en/packaging/SOT_8_05-08-1637.pdf
footprint LT-TS8-8-TSOT-23_V (SOT23, 8-Leads, Body 2.9x1.75mm, Pitch 0.65mm)
pins: 1 VIN (power) "Power Supply Input: 2.7V to 26.4V.", 2 ~{PB} (in) "Pushbutton Input. Connecting P\B\ to ground through a momentary switch provides on/off control via the EN/E\N\ pin. An internal 100k pull-up resistor connects to an internal 1.9V bias voltage. The rugged P\B\ input can be (See Datasheet)", 3 ONT (in) "Additional Adjustable Turn On Time Input. Placing an external capacitor to ground determines the additional time (beyond the internal default 32ms) the P\B\ pin must be held low before the enable output is asserted. Floating (See Datasheet)", 4 GND (power) "Device Ground.", 5 ~{INT} (oc) "Open Drain Interrupt Output. After a pushbutton turn-off event is detected, the LTC2950 interrupts the system (uP) by bringing the I\N\T\ pin low. Once the system finishes its power down and housekeeping tasks, it sets (See Datasheet)", 6 EN (oc) "Open Drain Enable Output. This pin is intended to enable system power. E\N\ is asserted low after a valid P\B\ turn-on event. E\N\ releases high if: a) K\I\L\L\ is not driven high (by uP) within 512ms of the initial valid (See Datasheet)", 7 OFFT (in) "Additional Adjustable Turn Off Time Input. A capacitor to ground determines the additional time (beyond the internal default 32ms) that the P\B\ pin must be held low before initiating a power down sequence (I\N\T\ falling). (See Datasheet)", 8 ~{KILL} (in) "K\I\L\L\ Input. Forcing K\I\L\L\ low releases the enable output. During system turn on, this pin is blanked by a 512ms internal timer to allow the system to pull K\I\L\L\ high. This pin has an accurate 0.6V threshold and can (See Datasheet)"